# EAGLE library part AT45DB161D (library atmel)
16-megabit 2.5V or 2.7V DataFlash Source: http://www.atmel.com/dyn/resources/prod_documents/doc3500.pdf
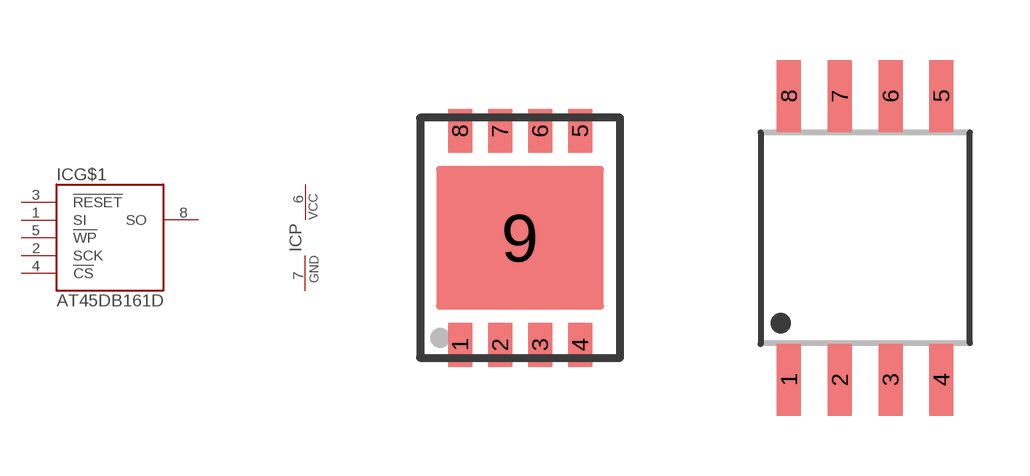
[diagram p4: symbol with the pads of DFN8_5X6; footprints DFN8_5X6, 8S2]

Designator prefix IC; gates G$1=AT45DB161VFN8 P=PWR

## AT45DB161D-MU  [DFN8_5X6]
1  G$1:SI  in
2  G$1:SCK  in
3  G$1:!RESET  in
4  G$1:!CS  in
5  G$1:!WP  in
6  P:VCC  pwr
7  P:GND  pwr
8  G$1:SO  out

## AT45DB161D-SU  [8S2]
Pads as for DFN8_5X6

## Footprint DFN8_5X6 (pad centres in mm)
8-Lead Plastic DFN 5mm x 6mm body, 1.0mm lead pitch, exposed pad ATMEL Code: 8M1-A
smd 0.6 x 1.1: 1 -1.5,-2.675; 2 -0.5,-2.675; 3 0.5,-2.675; 4 1.5,-2.675; 5 1.5,2.675; 6 0.5,2.675; 7 -0.5,2.675; 8 -1.5,2.675
smd 4.2 x 3.6: 9 0,0

## Footprint 8S2 (pad centres in mm)
8 leads Plastic Small Outline Package, 208mil body width, 50mil lead pitch JEDEC: Atmel: 8S2 Texas Instruments: PS (R-PDSO-G8)
smd 0.6 x 1.8: 1 -1.905,-3.55; 2 -0.635,-3.55; 3 0.635,-3.55; 4 1.905,-3.55; 5 1.905,3.55; 6 0.635,3.55; 7 -0.635,3.55; 8 -1.905,3.55